# Altium footprint library PcbLib1.PcbLib: 218 footprints (part 14 of 14)
Each footprint in its own frame and in the unit in brackets; x right, y up, seen from the top. Pads: shape width x height; smd on the part's side, far side on the other; paste and mask are expansions set on the pad; w line width, h text height; cw(c..) or ccw(c..) is an arc to the next point about the centre after c.
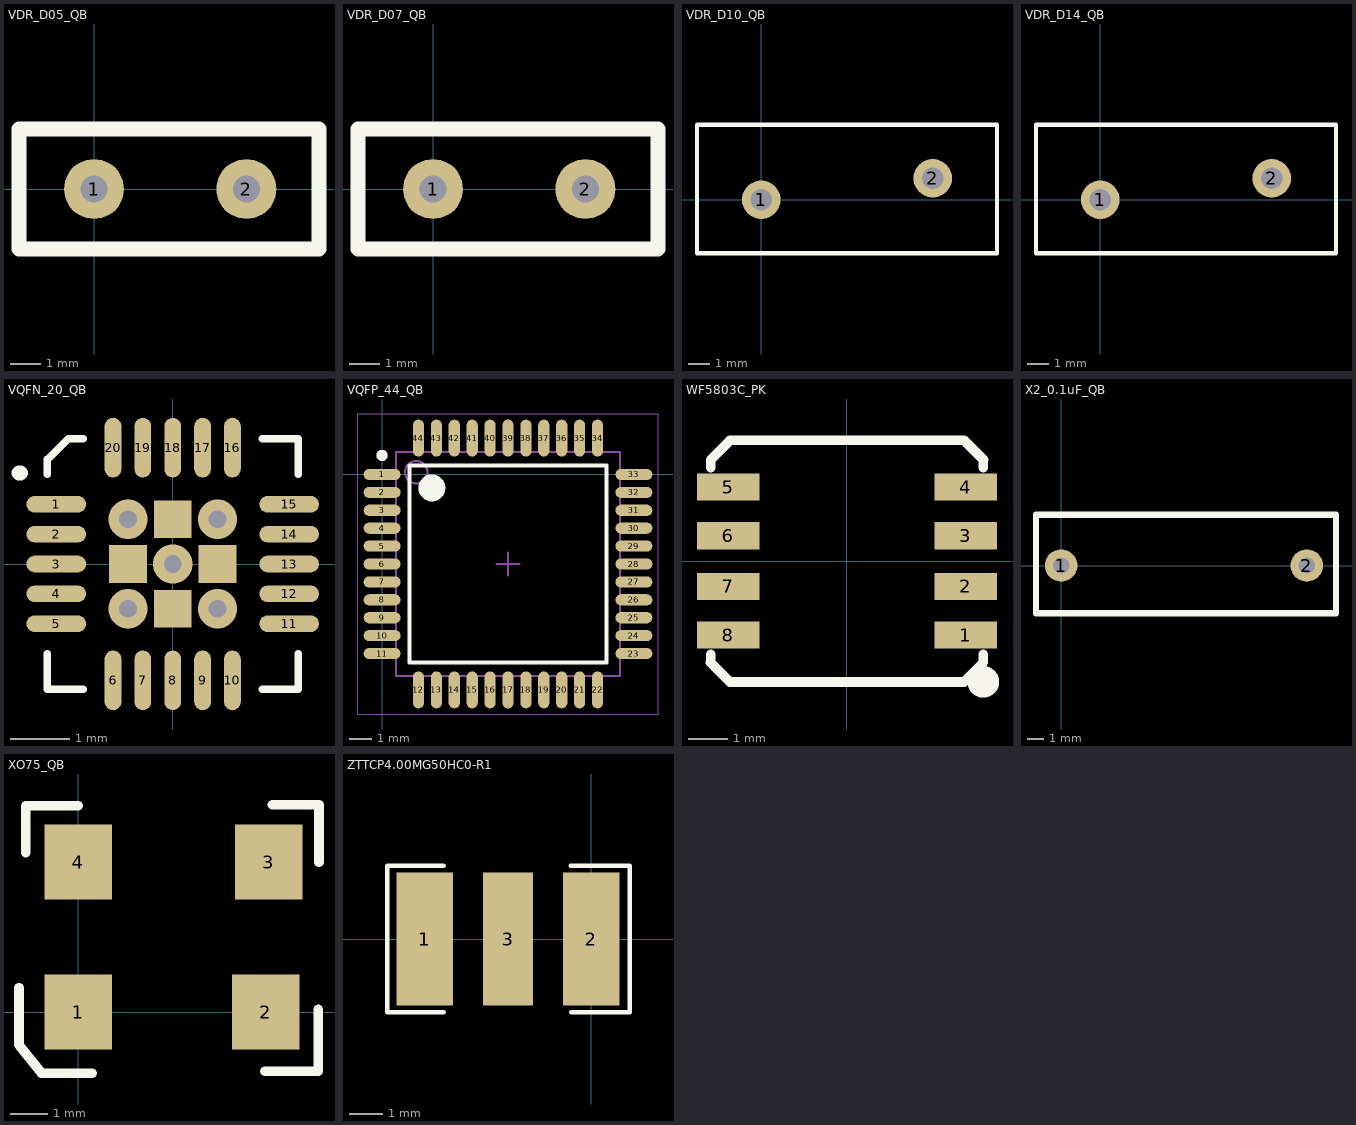
[diagram p13: the footprints below, top view; thin cyan lines are the x and y axes]

## VDR_D05_QB [mm]
pads (2):
  round 2 hole 0.9: 1(0,0) 2(5.08,0)
Top Overlay:
  lines w0.5: 7.5,-2 -2.5,-2 -2.5,2 7.5,2 7.5,-1.875
3D body: height 2.4, standoff -2.6, extent 4.885,-0.2 5.283,0.2
3D body: height 2.4, standoff -2.6, extent -0.199,-0.229 0.199,0.171
3D body: height 8.47, standoff 1.5, extent -0.953,-0.984 6.033,1.016

## VDR_D07_QB [mm]
pads (2):
  round 2 hole 0.9: 1(0,0) 2(5.08,0)
Top Overlay:
  lines w0.5: 7.5,-2 -2.5,-2 -2.5,2 7.5,2 7.5,-1.875
3D body: height 2.4, standoff -2.6, extent 4.877,-0.2 5.275,0.2
3D body: height 2.4, standoff -2.6, extent -0.199,-0.203 0.199,0.196
3D body: height 8.97, standoff 1, extent -1.427,-1.245 6.558,1.255

## VDR_D10_QB [mm]
pads (2):
  round 1.8 hole 1: 1(0,0) 2(8,1)
Top Overlay:
  lines w0.203: -3,-2.5 -3,3.5 11,3.5 11,-2.5 -3,-2.5
3D body: height 11.46, standoff 0.5, extent -1.501,-1.524 9.477,2.476
3D body: height 2.4, standoff -2.6, extent -0.199,-0.203 0.199,0.196
3D body: height 2.4, standoff -2.6, extent 7.801,0.797 8.199,1.196

## VDR_D14_QB [mm]
pads (2):
  round 1.8 hole 1: 1(0,0) 2(8,1)
Top Overlay:
  lines w0.203: -3,-2.5 11,-2.5 11,3.5 -3,3.5 -3,-2.5
3D body: height 13.45, standoff 0.5, extent -2.449,-1.448 10.526,2.552
3D body: height 2.4, standoff -2.6, extent -0.199,-0.203 0.199,0.196
3D body: height 2.4, standoff -2.6, extent 7.801,0.797 8.199,1.196

## VQFN_20_QB [mm]
height 0.9
pads (24):
  oval 1x0.28 smd: 1(-1.95,1) 2(-1.95,0.5) 3(-1.95,0) 4(-1.95,-0.5) 5(-1.95,-1) 11(1.95,-1) 12(1.95,-0.5) 13(1.95,0) 14(1.95,0.5) 15(1.95,1)
  oval 0.28x1 smd: 6(-1,-1.95) 7(-0.5,-1.95) 8(0,-1.95) 9(0.5,-1.95) 10(1,-1.95) 16(1,1.95) 17(0.5,1.95) 18(0,1.95) 19(-0.5,1.95) 20(-1,1.95)
  rect 0.635x0.635 smd: ""(-0.75,0) ""(0,-0.75) ""(0,0.75) ""(0.75,0)
via 0,0 diameter 0.66 hole 0.3
via -0.75,0.75 diameter 0.66 hole 0.3
via 0.75,-0.75 diameter 0.66 hole 0.3
via 0.75,0.75 diameter 0.66 hole 0.3
via -0.75,-0.75 diameter 0.66 hole 0.3
Top Layer:
  lines w0.254: -0.1,0.85 0,0.75
Top Overlay:
  lines w0.127: -2.1,-1.5 -2.1,-2.1 -1.5,-2.1 ; -2.1,1.5 -2.1,1.75 -1.75,2.1 -1.5,2.1 ; 1.5,-2.1 2.1,-2.1 2.1,-1.5 ; 1.5,2.1 2.1,2.1 2.1,1.5
  lines w0.254: -2.575,1.525 -2.55,1.525
3D body: height 0.2, standoff 0, extent 1.6,0.9 2.1,1.1
3D body: height 0.2, standoff 0, extent 1.6,0.4 2.1,0.6
3D body: height 0.2, standoff 0, extent 1.6,-0.1 2.1,0.1
3D body: height 0.2, standoff 0, extent 1.6,-0.6 2.1,-0.4
3D body: height 0.2, standoff 0, extent 1.6,-1.1 2.1,-0.9
3D body: height 0.2, standoff 0, extent 0.9,1.6 1.1,2.1
3D body: height 0.2, standoff 0, extent 0.4,1.6 0.6,2.1
3D body: height 0.2, standoff 0, extent -0.1,1.6 0.1,2.1
3D body: height 0.2, standoff 0, extent -0.6,1.6 -0.4,2.1
3D body: height 0.2, standoff 0, extent -1.1,1.6 -0.9,2.1
3D body: height 0.2, standoff 0, extent -2.1,0.9 -1.6,1.1
3D body: height 0.2, standoff 0, extent -2.1,0.4 -1.6,0.6
3D body: height 0.2, standoff 0, extent -2.1,-0.1 -1.6,0.1
3D body: height 0.2, standoff 0, extent -2.1,-0.6 -1.6,-0.4
3D body: height 0.2, standoff 0, extent -2.1,-1.1 -1.6,-0.9
3D body: height 0.2, standoff 0, extent -1.1,-2.1 -0.9,-1.6
3D body: height 0.2, standoff 0, extent -0.6,-2.1 -0.4,-1.6
3D body: height 0.2, standoff 0, extent -0.1,-2.1 0.1,-1.6
3D body: height 0.2, standoff 0, extent 0.4,-2.1 0.6,-1.6
3D body: height 0.2, standoff 0, extent 0.9,-2.1 1.1,-1.6
3D body: height 0.21, standoff 0, extent -0.13,1.984 0.133,2.096
3D body: height 0.21, standoff 0, extent 0.869,1.983 1.131,2.095
3D body: height 0.21, standoff 0, extent 0.369,1.983 0.631,2.095
3D body: height 0.21, standoff 0, extent -0.629,1.983 -0.366,2.095
3D body: height 0.21, standoff 0, extent -1.131,1.983 -0.869,2.095
3D body: height 0.21, standoff 0, extent -0.132,-2.011 0.13,-1.899
3D body: height 0.21, standoff 0, extent -1.131,-2.01 -0.869,-1.898
3D body: height 0.21, standoff 0, extent -0.631,-2.01 -0.369,-1.898
3D body: height 0.21, standoff 0, extent 0.369,-2.01 0.631,-1.898
3D body: height 0.21, standoff 0, extent 0.869,-2.01 1.131,-1.898
3D body: height 0.21, standoff 0, extent -2.099,-0.13 -1.986,0.132
3D body: height 0.21, standoff 0, extent -2.095,-1.131 -1.983,-0.869
3D body: height 0.21, standoff 0, extent -2.097,-0.631 -1.985,-0.369
3D body: height 0.21, standoff 0, extent -2.1,0.369 -1.988,0.631
3D body: height 0.21, standoff 0, extent -2.105,0.871 -1.993,1.134
3D body: height 0.21, standoff 0, extent 1.899,-0.13 2.011,0.132
3D body: height 0.21, standoff 0, extent 1.9,0.869 2.013,1.131
3D body: height 0.21, standoff 0, extent 1.9,0.371 2.013,0.634
3D body: height 0.21, standoff 0, extent 1.9,-0.629 2.013,-0.366
3D body: height 0.9, standoff 0.21, extent -1.917,-1.912 1.933,1.938
3D body: height 0.21, standoff 0.01, extent -2.102,-2.007 2.008,2.093
3D body: height 0.21, standoff 0, extent 1.901,-1.134 2.014,-0.871

## VQFP_44_QB [mm] "VQFP, 44-Leads, Body 10.00x10.00mm, Pitch 0.80mm, IPC Medium Density"
height 1.2
pads (44):
  oval 1.65x0.5 smd: 1(0,0) 2(0,-0.8) 3(0,-1.6) 4(0,-2.4) 5(0,-3.2) 6(0,-4) 7(0,-4.8) 8(0,-5.6) 9(0,-6.4) 10(0,-7.2) 11(0,-8) 23(11.25,-8) 24(11.25,-7.2) 25(11.25,-6.4) 26(11.25,-5.6) 27(11.25,-4.8) 28(11.25,-4) 29(11.25,-3.2) 30(11.25,-2.4) 31(11.25,-1.6) 32(11.25,-0.8) 33(11.25,0)
  oval 0.5x1.65 smd: 12(1.625,-9.625) 13(2.425,-9.625) 14(3.225,-9.625) 15(4.025,-9.625) 16(4.825,-9.625) 17(5.625,-9.625) 18(6.425,-9.625) 19(7.225,-9.625) 20(8.025,-9.625) 21(8.825,-9.625) 22(9.625,-9.625) 34(9.625,1.625) 35(8.825,1.625) 36(8.025,1.625) 37(7.225,1.625) 38(6.425,1.625) 39(5.625,1.625) 40(4.825,1.625) 41(4.025,1.625) 42(3.225,1.625) 43(2.425,1.625) 44(1.625,1.625)
Top Overlay:
  circle w0.6: c2.225,-0.6 r0.3
  circle w0.25: c0,0.85 r0.125
  lines w0.2: 1.225,-8.4 10.025,-8.4 10.025,0.4 1.225,0.4 1.225,-8.4
Mechanical 13:
  circle w0.1: c1.525,0.1 r0.5
  lines w0.1: 0.625,-9 10.625,-9 10.625,1 0.625,1 0.625,-9
Mechanical 15:
  lines w0.05: -1.075,-10.7 12.325,-10.7 12.325,2.7 -1.075,2.7 -1.075,-10.7
  lines w0.1: 5.125,-4 6.125,-4 ; 5.625,-4.5 5.625,-3.5
3D body: height 0.25, standoff 0, extent 1.397,1.333 1.905,2.222
3D body: height 0.6, standoff 0, extent 1.397,1.333 1.905,1.46
3D body: height 0.85, standoff 0.6, extent 1.397,0.952 1.905,1.46
3D body: height 0.25, standoff 0, extent 2.159,1.333 2.667,2.222
3D body: height 0.6, standoff 0, extent 2.159,1.333 2.667,1.46
3D body: height 0.85, standoff 0.6, extent 2.159,0.952 2.667,1.46
3D body: height 0.25, standoff 0, extent 2.921,1.333 3.429,2.222
3D body: height 0.6, standoff 0, extent 2.921,1.333 3.429,1.46
3D body: height 0.85, standoff 0.6, extent 2.921,0.952 3.429,1.46
3D body: height 0.25, standoff 0, extent 3.81,1.333 4.318,2.222
3D body: height 0.6, standoff 0, extent 3.81,1.333 4.318,1.46
3D body: height 0.85, standoff 0.6, extent 3.81,0.952 4.318,1.46
3D body: height 0.25, standoff 0, extent 4.572,1.333 5.08,2.222
3D body: height 0.6, standoff 0, extent 4.572,1.333 5.08,1.46
3D body: height 0.85, standoff 0.6, extent 4.572,0.952 5.08,1.46
3D body: height 0.25, standoff 0, extent 5.334,1.333 5.842,2.222
3D body: height 0.6, standoff 0, extent 5.334,1.333 5.842,1.46
3D body: height 0.85, standoff 0.6, extent 5.334,0.952 5.842,1.46
3D body: height 0.25, standoff 0, extent 6.223,1.333 6.731,2.222
3D body: height 0.6, standoff 0, extent 6.223,1.333 6.731,1.46
3D body: height 0.85, standoff 0.6, extent 6.223,0.952 6.731,1.46
3D body: height 0.25, standoff 0, extent 6.985,1.333 7.493,2.222
3D body: height 0.6, standoff 0, extent 6.985,1.333 7.493,1.46
3D body: height 0.85, standoff 0.6, extent 6.985,0.952 7.493,1.46
3D body: height 0.25, standoff 0, extent 7.747,1.333 8.255,2.222
3D body: height 0.6, standoff 0, extent 7.747,1.333 8.255,1.46
3D body: height 0.85, standoff 0.6, extent 7.747,0.952 8.255,1.46
3D body: height 0.25, standoff 0, extent 8.636,1.333 9.144,2.222
3D body: height 0.6, standoff 0, extent 8.636,1.333 9.144,1.46
3D body: height 0.85, standoff 0.6, extent 8.636,0.952 9.144,1.46
3D body: height 0.25, standoff 0, extent 9.398,1.333 9.906,2.222
3D body: height 0.6, standoff 0, extent 9.398,1.333 9.906,1.46
3D body: height 0.85, standoff 0.6, extent 9.398,0.952 9.906,1.46
3D body: height 0.25, standoff 0, extent 10.985,-0.254 11.874,0.254
3D body: height 0.6, standoff 0, extent 10.985,-0.254 11.112,0.254
3D body: height 0.85, standoff 0.6, extent 10.604,-0.254 11.112,0.254
3D body: height 0.25, standoff 0, extent 10.985,-1.016 11.874,-0.508
3D body: height 0.6, standoff 0, extent 10.985,-1.016 11.112,-0.508
3D body: height 0.85, standoff 0.6, extent 10.604,-1.016 11.112,-0.508
3D body: height 0.25, standoff 0, extent 10.985,-1.905 11.874,-1.397
3D body: height 0.6, standoff 0, extent 10.985,-1.905 11.112,-1.397
3D body: height 0.85, standoff 0.6, extent 10.604,-1.905 11.112,-1.397
3D body: height 0.25, standoff 0, extent 10.985,-2.667 11.874,-2.159
3D body: height 0.6, standoff 0, extent 10.985,-2.667 11.112,-2.159
3D body: height 0.85, standoff 0.6, extent 10.604,-2.667 11.112,-2.159
3D body: height 0.25, standoff 0, extent 10.985,-3.429 11.874,-2.921
3D body: height 0.6, standoff 0, extent 10.985,-3.429 11.112,-2.921
3D body: height 0.85, standoff 0.6, extent 10.604,-3.429 11.112,-2.921
3D body: height 0.25, standoff 0, extent 10.985,-4.191 11.874,-3.683
3D body: height 0.6, standoff 0, extent 10.985,-4.191 11.112,-3.683
3D body: height 0.85, standoff 0.6, extent 10.604,-4.191 11.112,-3.683
3D body: height 0.25, standoff 0, extent 10.985,-5.08 11.874,-4.572
3D body: height 0.6, standoff 0, extent 10.985,-5.08 11.112,-4.572
3D body: height 0.85, standoff 0.6, extent 10.604,-5.08 11.112,-4.572
3D body: height 0.25, standoff 0, extent 10.985,-5.842 11.874,-5.334
3D body: height 0.6, standoff 0, extent 10.985,-5.842 11.112,-5.334
3D body: height 0.85, standoff 0.6, extent 10.604,-5.842 11.112,-5.334
3D body: height 0.25, standoff 0, extent 10.985,-6.604 11.874,-6.096
3D body: height 0.6, standoff 0, extent 10.985,-6.604 11.112,-6.096
3D body: height 0.85, standoff 0.6, extent 10.604,-6.604 11.112,-6.096
3D body: height 0.25, standoff 0, extent 10.986,-7.493 11.875,-6.985
3D body: height 0.6, standoff 0, extent 10.986,-7.493 11.113,-6.985
3D body: height 0.85, standoff 0.6, extent 10.605,-7.493 11.113,-6.985
3D body: height 0.25, standoff 0, extent 10.985,-8.255 11.874,-7.747
3D body: height 0.6, standoff 0, extent 10.985,-8.255 11.112,-7.747
3D body: height 0.85, standoff 0.6, extent 10.604,-8.255 11.112,-7.747
3D body: height 0.25, standoff 0, extent 9.398,-10.223 9.906,-9.334
3D body: height 0.6, standoff 0, extent 9.398,-9.461 9.906,-9.334
3D body: height 0.85, standoff 0.6, extent 9.398,-9.461 9.906,-8.953
3D body: height 0.25, standoff 0, extent 8.509,-10.223 9.017,-9.334
3D body: height 0.6, standoff 0, extent 8.509,-9.461 9.017,-9.334
3D body: height 0.85, standoff 0.6, extent 8.509,-9.461 9.017,-8.953
3D body: height 0.25, standoff 0, extent 7.747,-10.223 8.255,-9.334
3D body: height 0.6, standoff 0, extent 7.747,-9.461 8.255,-9.334
3D body: height 0.85, standoff 0.6, extent 7.747,-9.461 8.255,-8.953
3D body: height 0.25, standoff 0, extent 6.985,-10.223 7.493,-9.334
3D body: height 0.6, standoff 0, extent 6.985,-9.461 7.493,-9.334
3D body: height 0.85, standoff 0.6, extent 6.985,-9.461 7.493,-8.953
3D body: height 0.25, standoff 0, extent 6.223,-10.223 6.731,-9.334
3D body: height 0.6, standoff 0, extent 6.223,-9.461 6.731,-9.334
3D body: height 0.85, standoff 0.6, extent 6.223,-9.461 6.731,-8.953
3D body: height 0.25, standoff 0, extent 5.334,-10.223 5.842,-9.334
3D body: height 0.6, standoff 0, extent 5.334,-9.461 5.842,-9.334
3D body: height 0.85, standoff 0.6, extent 5.334,-9.461 5.842,-8.953
3D body: height 0.25, standoff 0, extent 4.572,-10.223 5.08,-9.334
3D body: height 0.6, standoff 0, extent 4.572,-9.461 5.08,-9.334
3D body: height 0.85, standoff 0.6, extent 4.572,-9.461 5.08,-8.953
3D body: height 0.25, standoff 0, extent 3.81,-10.223 4.318,-9.334
3D body: height 0.6, standoff 0, extent 3.81,-9.461 4.318,-9.334
3D body: height 0.85, standoff 0.6, extent 3.81,-9.461 4.318,-8.953
3D body: height 0.25, standoff 0, extent 2.921,-10.223 3.429,-9.334
3D body: height 0.6, standoff 0, extent 2.921,-9.461 3.429,-9.334
3D body: height 0.85, standoff 0.6, extent 2.921,-9.461 3.429,-8.953
3D body: height 0.25, standoff 0, extent 2.159,-10.223 2.667,-9.334
3D body: height 0.6, standoff 0, extent 2.159,-9.461 2.667,-9.334
3D body: height 0.85, standoff 0.6, extent 2.159,-9.461 2.667,-8.953
3D body: height 0.25, standoff 0, extent 1.397,-10.223 1.905,-9.334
3D body: height 0.6, standoff 0, extent 1.397,-9.461 1.905,-9.334
3D body: height 0.85, standoff 0.6, extent 1.397,-9.461 1.905,-8.953
3D body: height 0.25, standoff 0, extent -0.571,-8.255 0.318,-7.747
3D body: height 0.6, standoff 0, extent 0.191,-8.255 0.318,-7.747
3D body: height 0.85, standoff 0.6, extent 0.191,-8.255 0.699,-7.747
3D body: height 0.25, standoff 0, extent -0.571,-7.493 0.318,-6.985
3D body: height 0.6, standoff 0, extent 0.191,-7.493 0.318,-6.985
3D body: height 0.85, standoff 0.6, extent 0.191,-7.493 0.699,-6.985
3D body: height 0.25, standoff 0, extent -0.571,-6.604 0.318,-6.096
3D body: height 0.6, standoff 0, extent 0.191,-6.604 0.318,-6.096
3D body: height 0.85, standoff 0.6, extent 0.191,-6.604 0.699,-6.096
3D body: height 0.25, standoff 0, extent -0.571,-5.842 0.318,-5.334
3D body: height 0.6, standoff 0, extent 0.191,-5.842 0.318,-5.334
3D body: height 0.85, standoff 0.6, extent 0.191,-5.842 0.699,-5.334
3D body: height 0.25, standoff 0, extent -0.571,-5.08 0.318,-4.572
3D body: height 0.6, standoff 0, extent 0.191,-5.08 0.318,-4.572
3D body: height 0.85, standoff 0.6, extent 0.191,-5.08 0.699,-4.572
3D body: height 0.25, standoff 0, extent -0.571,-4.191 0.318,-3.683
3D body: height 0.6, standoff 0, extent 0.191,-4.191 0.318,-3.683
3D body: height 0.85, standoff 0.6, extent 0.191,-4.191 0.699,-3.683
3D body: height 0.25, standoff 0, extent -0.571,-3.429 0.318,-2.921
3D body: height 0.6, standoff 0, extent 0.191,-3.429 0.318,-2.921
3D body: height 0.85, standoff 0.6, extent 0.191,-3.429 0.699,-2.921
3D body: height 0.25, standoff 0, extent -0.571,-2.667 0.318,-2.159
3D body: height 0.6, standoff 0, extent 0.191,-2.667 0.318,-2.159
3D body: height 0.85, standoff 0.6, extent 0.191,-2.667 0.699,-2.159
3D body: height 0.25, standoff 0, extent -0.571,-1.905 0.318,-1.397
3D body: height 0.6, standoff 0, extent 0.191,-1.905 0.318,-1.397
3D body: height 0.85, standoff 0.6, extent 0.191,-1.905 0.699,-1.397
3D body: height 0.25, standoff 0, extent -0.571,-1.016 0.318,-0.508
3D body: height 0.6, standoff 0, extent 0.191,-1.016 0.318,-0.508
3D body: height 0.85, standoff 0.6, extent 0.191,-1.016 0.699,-0.508
3D body: height 0.25, standoff 0, extent -0.571,-0.254 0.318,0.254
3D body: height 0.6, standoff 0, extent 0.191,-0.254 0.318,0.254
3D body: height 0.85, standoff 0.6, extent 0.191,-0.254 0.699,0.254
3D body: height 1.2, standoff 0.1, extent 0.625,-9 10.625,1

## WF5803C_PK [mm]
pads (8):
  rect 1.6x0.7 smd: 1(3.05,-1.9) 2(3.05,-0.65) 3(3.05,0.65) 4(3.05,1.9) 5(-3.05,1.9) 6(-3.05,0.65) 7(-3.05,-0.65) 8(-3.05,-1.9)
Top Overlay:
  circle w0.508: c3.5,-3.1 r0.15
  lines w0.25: -3.5,-2.6 -3.5,-2.4 ; -3.5,2.4 -3.5,2.6 -3,3.1 ; 3,-3.1 3.5,-2.6 3.5,-2.4 ; 3.5,2.4 3.5,2.6
  lines w0.254: -3.5,-2.6 -3,-3.1 3,-3.1 ; -3,3.1 3,3.1 3.5,2.6
3D body: height 2.9, standoff 0, extent -2.2,-2.199 2.2,2.199

## X2_0.1uF_QB [mm]
height 20
pads (2):
  round 2 hole 1: 1(0,0) 2(15.13,0)
Top Overlay:
  lines w0.4: -1.55,-2.95 -1.55,3.14 16.93,3.14 ; -1.53,-2.95 16.93,-2.95 16.93,3.13
3D body: height 16.1, standoff 2.6, extent -1.55,-2.97 16.74,2.99
3D body: height 2.6, standoff -2.6, extent 14.74,-0.399 15.537,0.399
3D body: height 2.6, standoff -2.6, extent -0.38,-0.399 0.417,0.399

## XO75_QB [mm]
pads (4):
  rect 1.8x2 smd: 1(0,0) 2(5,0) 3(5.08,4) 4(0,4)
Top Overlay:
  lines w0.254: -1.575,0.65 -1.575,-0.875 -0.975,-1.625 0.375,-1.625 ; -1.4,4.25 -1.4,5.5 0,5.5 ; 4.975,-1.575 6.4,-1.575 6.4,0.075 ; 5.175,5.525 6.425,5.525 6.425,4
3D body: height 1.72, standoff 1.65, extent -1,-0.4 6,4.6
3D body: height 1.65, standoff 1.2, extent -1,-0.4 6,4.6
3D body: height 1.2, standoff 0, extent -1,-0.4 6,4.6

## ZTTCP4.00MG50HC0-R1 [mm]
pads (3):
  rect 1.7x4 smd: 1(-5,0) 2(0,0)
  rect 1.5x4 smd: 3(-2.5,0)
Top Overlay:
  lines w0.127: -4.425,-2.2 -6.125,-2.2 -6.125,2.2 -4.425,2.2 ; -0.625,2.2 1.15,2.2 1.15,-2.2 -0.6,-2.2
3D body: height 0.75, standoff 0.35, extent -5.312,-2 -2.987,2
3D body: height 0.75, standoff 0.35, extent -1.975,-1.975 0.375,2.025